# Altium schematic symbol library SCH - CONNECTORS - SAMTEC - FTS-104-01-X-DV.SCHLIB: 1 symbol
Pins are listed as number, name and electrical type; pins without a type are passive.

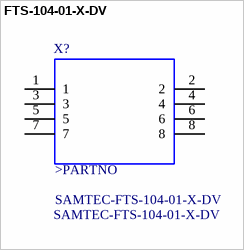
[diagram p0: symbol FTS-104-01-X-DV]

## FTS-104-01-X-DV
designator X?, comment SAMTEC-FTS-104-01-X-DV
pins: 1, 2, 3, 4, 5, 6, 7, 8
text: >PARTNO